# Altium footprint library Abracon LLC.PcbLib: 5 footprints
Each footprint in its own frame and in the unit in brackets; x right, y up, seen from the top. Pads: shape width x height; smd on the part's side, far side on the other; paste and mask are expansions set on the pad; w line width, h text height; cw(c..) or ccw(c..) is an arc to the next point about the centre after c.
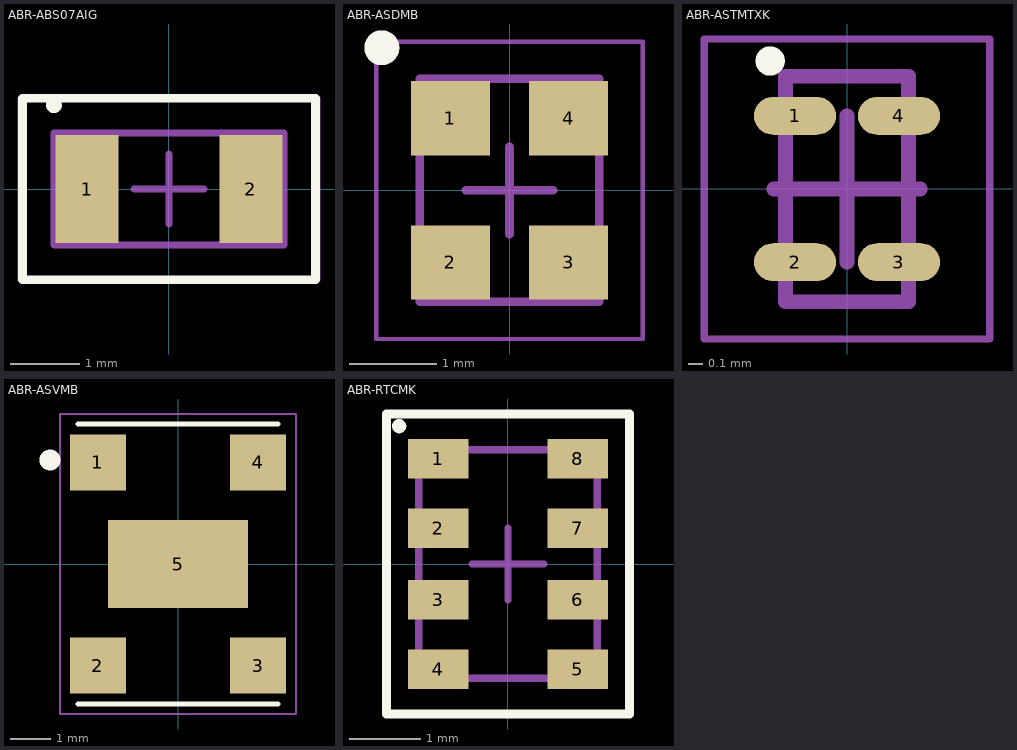
[diagram p0: the footprints below, top view; thin cyan lines are the x and y axes]

## ABR-ABS07AIG [mm] "DFN, 2-Leads, Body 1.50x3.20mm, Pitch 2.35mm, IPC Low Density"
height 0.9
pads (2):
  rect 0.9x1.55 smd: 1(-1.175,0) 2(1.175,0)
Top Overlay:
  circle w0.127: c-1.65,1.2 r0.05
  lines w0.127: -2.1,-1.3 -2.1,1.3 2.1,1.3 ; -2.1,-1.3 -2.1,-1.3 ; -2.1,-1.3 2.1,-1.3 2.1,1.3 ; 2.1,1.3 2.1,1.3
Mechanical 13:
  lines w0.1: -1.65,-0.8 -1.65,0.8 1.65,0.8 1.65,-0.8 -1.65,-0.8
Mechanical 15:
  lines w0.05: -2.15,-1.3 -2.15,1.3 2.15,1.3 2.15,-1.3 -2.15,-1.3
  lines w0.1: -0.5,0 0.5,0 ; 0,-0.5 0,0.5
3D body: height 0.9, standoff 0, extent -1.65,-0.8 1.65,0.8

## ABR-ASDMB [mm] "DFN, 4-Leads, Body 2.00x2.50mm, Pitch 1.65mm, IPC Low Density"
height 0.9
pads (4):
  rect 0.9x0.85 smd: 1(-0.675,0.825) 2(-0.675,-0.825) 3(0.675,-0.825) 4(0.675,0.825)
Top Overlay:
  circle w0.2: c-1.46,1.631 r0.1
Mechanical 13:
  lines w0.1: -1.025,-1.275 -1.025,1.275 1.025,1.275 1.025,-1.275 -1.025,-1.275
Mechanical 15:
  lines w0.05: -1.525,-1.7 -1.525,1.7 ; -1.524,-1.7 1.526,-1.7 ; -1.524,1.7 1.526,1.7 ; 1.525,-1.7 1.525,1.7
  lines w0.1: -0.5,0 0.5,0 ; 0,-0.5 0,0.5
3D body "ASDMB.STEP": height 0.86, standoff 0.01, extent -1,-1.25 1,1.25

## ABR-ASTMTXK [mm] "BGA, 4-Leads, Body 0.84x1.54mmx0.60mm, Pitch 0.41mm"
height 0.6
pads (4):
  oval 0.56x0.26 smd: 1(-0.355,0.5) 2(-0.355,-0.5) 3(0.355,-0.5) 4(0.355,0.5)
Top Overlay:
  circle w0.1: c-0.525,0.875 r0.05
Mechanical 13:
  lines w0.1: -0.42,-0.77 -0.42,0.77 0.42,0.77 0.42,-0.77 -0.42,-0.77
Mechanical 15:
  lines w0.05: -0.975,-1.025 -0.975,1.025 0.975,1.025 0.975,-1.025 -0.975,-1.025
  lines w0.1: -0.5,0 0.5,0 ; 0,-0.5 0,0.5
3D body "ASTMTXK.STEP": height 0.5, standoff -0.1, extent -0.42,-0.77 0.42,0.77

## ABR-ASVMB [mm]
pads (5):
  rect 1.4x1.4 smd: 1(-2,2.54) 2(-2,-2.54) 3(2,-2.54) 4(2,2.54)
  rect 3.5x2.2 smd: 5(0,0)
Top Overlay:
  circle w0.127: c-3.2,2.6 r0.2
  circle w0.127: c-3.2,2.6 r0.141
  circle w0.127: c-3.2,2.6 r0.1
  circle w0.127: c-3.2,2.5 r0.1
  lines w0.127: -2.5,-3.5 2.5,-3.5 ; -2.5,3.5 2.5,3.5
Mechanical 15:
  lines w0.05: -2.95,-3.75 2.95,-3.75 2.95,3.75 -2.95,3.75 -2.95,-3.75
3D body "ASVMB-16.000MHZ-LY-T.STEP": height 0.9, standoff 0, extent -2.5,-3.5 2.5,3.5

## ABR-RTCMK [mm]
pads (8):
  rect 0.85x0.55 smd: 1(-0.975,1.475) 2(-0.975,0.5) 3(-0.975,-0.5) 4(-0.975,-1.475) 5(0.975,-1.475) 6(0.975,-0.5) 7(0.975,0.5) 8(0.975,1.475)
Top Overlay:
  circle w0.1: c-1.524,1.93 r0.05
  lines w0.127: -1.7,-2.1 -1.7,2.1 1.7,2.1 1.7,-2.1 -1.7,-2.1
Mechanical 13:
  lines w0.1: -1.25,-1.6 1.25,-1.6 1.25,1.6 -1.25,1.6 -1.25,-1.6
Mechanical 15:
  lines w0.05: -1.7,-2.1 -1.7,2.1 1.7,2.1 1.7,-2.1 -1.7,-2.1
  lines w0.1: -0.5,0 0.5,0 ; 0,-0.5 0,0.5
3D body "AB-RTCMK-32.768kHz.STEP": height 1, standoff 0, extent -1.25,-1.6 1.25,1.6